# EAGLE library part FEZ_PANDA_III (library m1dst)
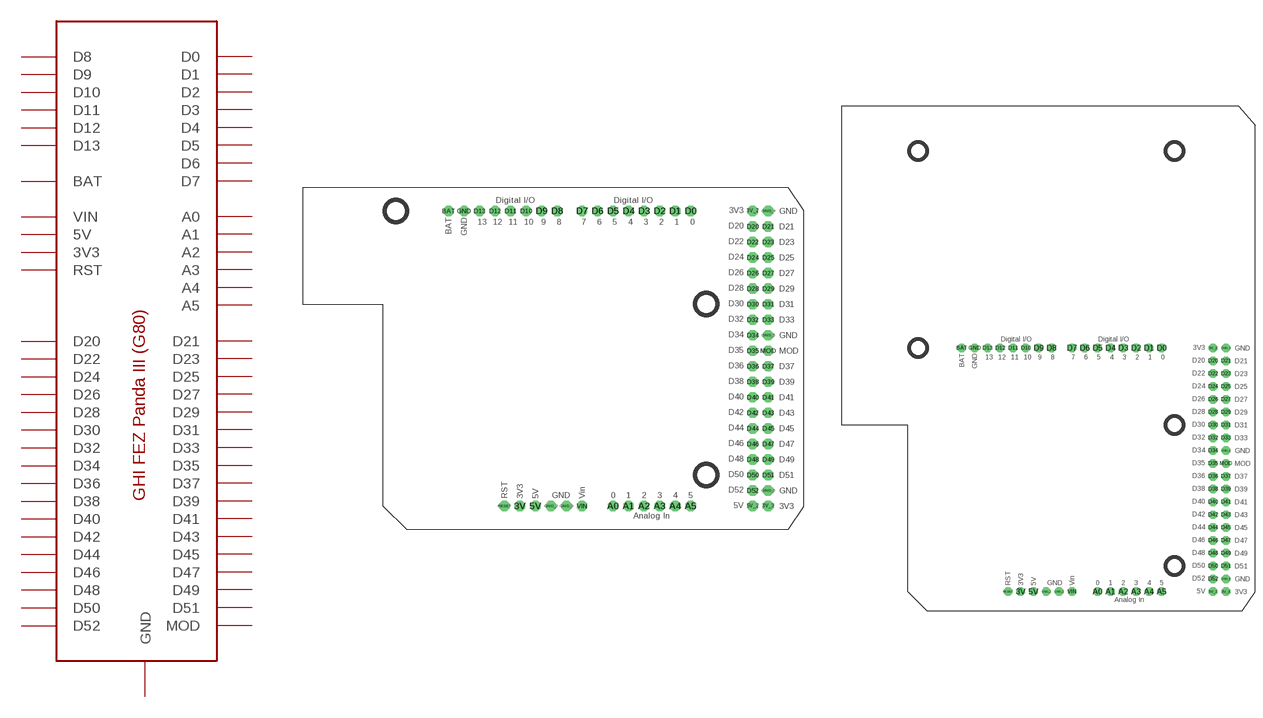
[diagram p6: symbol with the pads of FEZ_PANDA_III; footprints FEZ_PANDA_III, FEZ_PANDA_III_100MM]

Designator prefix -

## FEZ_PANDA_III  [FEZ_PANDA_III]
3V  3V3
3V_2  3V3
3V_3  3V3
5V  5V
5V_2  5V
A0  A0
A1  A1
A2  A2
A3  A3
A4  A4
A5  A5
BAT  BAT
D0  D0
D1  D1
D2  D2
D3  D3
D4  D4
D5  D5
D6  D6
D7  D7
D8  D8
D9  D9
D10  D10
D11  D11
D12  D12
D13  D13
D20  D20
D21  D21
D22  D22
D23  D23
D24  D24
D25  D25
D26  D26
D27  D27
D28  D28
D29  D29
D30  D30
D31  D31
D32  D32
D33  D33
D34  D34
D35  D35
D36  D36
D37  D37
D38  D38
D39  D39
D40  D40
D41  D41
D42  D42
D43  D43
D44  D44
D45  D45
D46  D46
D47  D47
D48  D48
D49  D49
D50  D50
D51  D51
D52  D52
GND  GND
GND_2  GND
GND_3  GND
GND_4  GND
GND_5  GND
GND_6  GND
MOD  MOD
RESET  RST
VIN  VIN

## FEZ_PANDA_III100MM_WIDE  [FEZ_PANDA_III_100MM]
Pads as for FEZ_PANDA_III

## Footprint FEZ_PANDA_III (pad centres in mm)
GHI Electronics FEZ Panda III Make a shield with ease, this package has all the named pins as well as the three mounting drill holes and an outline of the USB and DC power connector. The outline is on the DIMENSION layer, so if your board house uses it they will cut the outline to match.
drill 1 pad 1.676 octagon: 3V 35.56,3.81; 3V_2 73.66,52.07; 3V_3 76.2,3.81; 5V 38.1,3.81; 5V_2 73.66,3.81; A0 50.8,3.81; A1 53.34,3.81; A2 55.88,3.81; A3 58.42,3.81; A4 60.96,3.81; A5 63.5,3.81; BAT 23.876,52.07; D0 63.5,52.07; D1 60.96,52.07; D2 58.42,52.07; D3 55.88,52.07; D4 53.34,52.07; D5 50.8,52.07; D6 48.26,52.07; D7 45.72,52.07; D8 41.656,52.07; D9 39.116,52.07; D10 36.576,52.07; D11 34.036,52.07; D12 31.496,52.07; D13 28.956,52.07; D20 73.66,49.53; D21 76.2,49.53; D22 73.66,46.99; D23 76.2,46.99; D24 73.66,44.45; D25 76.2,44.45; D26 73.66,41.91; D27 76.2,41.91; D28 73.66,39.37; D29 76.2,39.37; D30 73.66,36.83; D31 76.2,36.83; D32 73.66,34.29; D33 76.2,34.29; D34 73.66,31.75; D35 73.66,29.21; D36 73.66,26.67; D37 76.2,26.67; D38 73.66,24.13; D39 76.2,24.13; D40 73.66,21.59; D41 76.2,21.59; D42 73.66,19.05; D43 76.2,19.05; D44 73.66,16.51; D45 76.2,16.51; D46 73.66,13.97; D47 76.2,13.97; D48 73.66,11.43; D49 76.2,11.43; D50 73.66,8.89; D51 76.2,8.89; D52 73.66,6.35; GND 26.416,52.07; GND_2 40.64,3.81; GND_3 43.18,3.81; GND_4 76.2,52.07; GND_5 76.2,31.75; GND_6 76.2,6.35; MOD 76.2,29.21; RESET 33.02,3.81; VIN 45.72,3.81
hole 3.2 at 15.24,52.07
hole 3.2 at 66.04,36.83
hole 3.2 at 66.04,8.89

## Footprint FEZ_PANDA_III_100MM (pad centres in mm)
GHI Electronics FEZ Panda III Make a shield with ease, this package has all the named pins as well as the three mounting drill holes and an outline of the USB and DC power connector. The outline is on the DIMENSION layer, so if your board house uses it they will cut the outline to match.
drill 1 pad 1.676 octagon: 3V 35.56,3.81; 3V_2 73.66,52.07; 3V_3 76.2,3.81; 5V 38.1,3.81; 5V_2 73.66,3.81; A0 50.8,3.81; A1 53.34,3.81; A2 55.88,3.81; A3 58.42,3.81; A4 60.96,3.81; A5 63.5,3.81; BAT 23.876,52.07; D0 63.5,52.07; D1 60.96,52.07; D2 58.42,52.07; D3 55.88,52.07; D4 53.34,52.07; D5 50.8,52.07; D6 48.26,52.07; D7 45.72,52.07; D8 41.656,52.07; D9 39.116,52.07; D10 36.576,52.07; D11 34.036,52.07; D12 31.496,52.07; D13 28.956,52.07; D20 73.66,49.53; D21 76.2,49.53; D22 73.66,46.99; D23 76.2,46.99; D24 73.66,44.45; D25 76.2,44.45; D26 73.66,41.91; D27 76.2,41.91; D28 73.66,39.37; D29 76.2,39.37; D30 73.66,36.83; D31 76.2,36.83; D32 73.66,34.29; D33 76.2,34.29; D34 73.66,31.75; D35 73.66,29.21; D36 73.66,26.67; D37 76.2,26.67; D38 73.66,24.13; D39 76.2,24.13; D40 73.66,21.59; D41 76.2,21.59; D42 73.66,19.05; D43 76.2,19.05; D44 73.66,16.51; D45 76.2,16.51; D46 73.66,13.97; D47 76.2,13.97; D48 73.66,11.43; D49 76.2,11.43; D50 73.66,8.89; D51 76.2,8.89; D52 73.66,6.35; GND 26.416,52.07; GND_2 40.64,3.81; GND_3 43.18,3.81; GND_4 76.2,52.07; GND_5 76.2,31.75; GND_6 76.2,6.35; MOD 76.2,29.21; RESET 33.02,3.81; VIN 45.72,3.81
hole 3.2 at 15.24,52.07
hole 3.2 at 66.04,36.83
hole 3.2 at 66.04,8.89
hole 3.2 at 15.24,91.11
hole 3.2 at 66.04,91.11